# Altium footprint library PCB_proj_module_1_1.PcbLib: 58 footprints (part 1 of 4)
Each footprint in its own frame and in the unit in brackets; x right, y up, seen from the top. Pads: shape width x height; smd on the part's side, far side on the other; paste and mask are expansions set on the pad; w line width, h text height; cw(c..) or ccw(c..) is an arc to the next point about the centre after c.
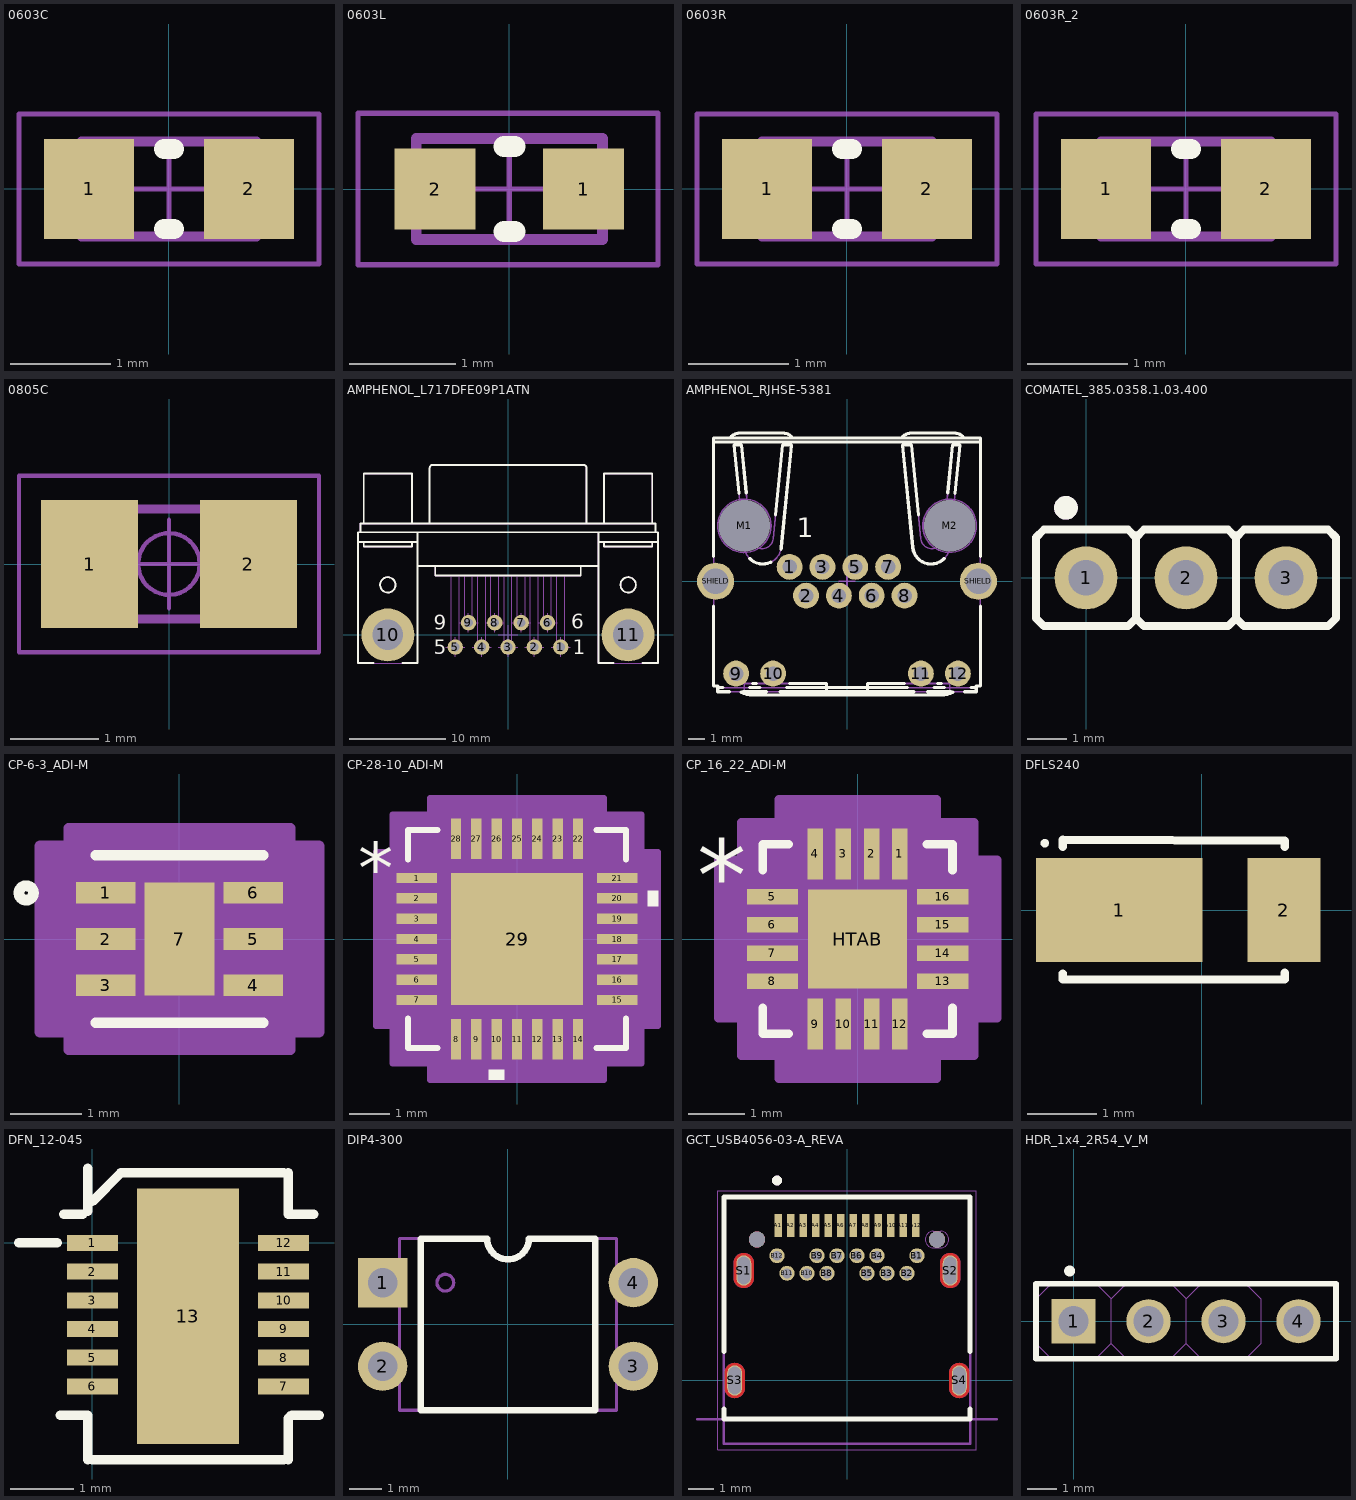
[diagram p0: the footprints below, top view; thin cyan lines are the x and y axes]

## 0603C [mm]
pads (2):
  rect 0.9x1 smd: 1(-0.8,0) 2(0.8,0)
Top Overlay:
  lines w0.2: -0.05,-0.4 0.05,-0.4 ; -0.05,0.4 0.05,0.4
Mechanical 13:
  lines w0.1: -0.875,-0.475 -0.875,0.475 0.875,0.475 0.875,-0.475 -0.875,-0.475
Mechanical 15:
  lines w0.05: -0.475,0 0.475,0 ; 0,-0.475 0,0.475 ; -1.5,-0.75 -1.5,0.75 1.5,0.75 1.5,-0.75 -1.5,-0.75
3D body: height 1, standoff 0, extent -0.525,-0.475 0.525,0.475
3D body: height 1, standoff 0, extent -0.875,-0.475 -0.525,0.475
3D body: height 1, standoff 0, extent 0.525,-0.475 0.875,0.475

## 0603L [mil]
pads (2):
  rect 30x30 smd: 1(27.5,0) 2(-27.5,0)
Top Overlay:
  lines w7.87: -1.97,-15.75 1.97,-15.75 -1.97,-15.74 ; -1.97,15.75 1.97,15.75 -1.97,15.75
Mechanical 13:
  lines w3.94: -34.45,-18.7 34.45,-18.7 34.45,18.7 -34.45,18.7 -34.45,-18.7
Mechanical 15:
  lines w1.97: -18.7,0 18.7,0 ; 0,-18.7 0,18.7 ; -56,-28 -56,28 55,28 55,-28 -56,-28
3D body: height 23.62, standoff 0, extent 20.67,-18.7 34.45,18.7
3D body: height 23.62, standoff 0, extent -34.45,-18.7 -20.67,18.7
3D body: height 23.62, standoff 0, extent -20.67,-18.7 20.67,18.7

## 0603R [mm]
pads (2):
  rect 0.9x1 smd: 1(-0.8,0) 2(0.8,0)
Top Overlay:
  lines w0.2: -0.05,-0.4 0.05,-0.4 ; -0.05,0.4 0.05,0.4
Mechanical 13:
  lines w0.1: -0.85,-0.475 0.85,-0.475 0.85,0.475 -0.85,0.475 -0.85,-0.475
Mechanical 15:
  lines w0.05: -0.475,0 0.475,0 ; 0,-0.475 0,0.475 ; -1.5,-0.75 1.5,-0.75 1.5,0.75 -1.5,0.75 -1.5,-0.75
3D body: height 0.6, standoff 0, extent -0.849,-0.474 -0.58,0.475
3D body: height 0.6, standoff 0, extent -0.58,-0.474 0.581,0.475
3D body: height 0.6, standoff 0, extent 0.581,-0.474 0.85,0.475

## 0603R_2 [mm]
pads (2):
  rect 0.9x1 smd: 1(-0.8,0) 2(0.8,0)
Top Overlay:
  lines w0.2: -0.05,-0.4 0.05,-0.4 ; -0.05,0.4 0.05,0.4
Mechanical 13:
  lines w0.1: -0.85,-0.475 -0.85,0.475 0.85,0.475 0.85,-0.475 -0.85,-0.475
Mechanical 15:
  lines w0.05: -0.475,0 0.475,0 ; 0,-0.475 0,0.475 ; -1.5,-0.75 -1.5,0.75 1.5,0.75 1.5,-0.75 -1.5,-0.75
3D body: height 0.6, standoff 0, extent 0.581,-0.474 0.85,0.475
3D body: height 0.6, standoff 0, extent -0.58,-0.474 0.581,0.475
3D body: height 0.6, standoff 0, extent -0.849,-0.474 -0.58,0.475

## 0805C [mm]
pads (2):
  rect 1.1x1.45 smd: 1(-0.9,0) 2(0.9,0)
Mechanical 14:
  lines w0.1: -1,-0.625 -1,0.625 1,0.625 1,-0.625 -1,-0.625
Mechanical 15:
  circle w0.05: c0,0 r0.35
  lines w0.05: -0.5,0 0.5,0 ; 0,-0.5 0,0.5 ; -1.7,-1 -1.7,1 1.7,1 1.7,-1 -1.7,-1
3D body "CAPC2012X90N.stp": height 0.9, standoff 0, extent -1.05,-0.675 1.05,0.675

## AMPHENOL_L717DFE09P1ATN [mm]
pads (11):
  round 1.6 hole 0.9: 1(5.48,-1.27) 2(2.74,-1.27) 3(0,-1.27) 4(-2.74,-1.27) 5(-5.48,-1.27) 6(4.11,1.27) 7(1.37,1.27) 8(-1.37,1.27) 9(-4.11,1.27)
  round 5.5 hole 3.2: 10(-12.495,0) 11(12.495,0)
Top Overlay:
  circle w0.2: c12.5,5.2 r0.8
  circle w0.2: c-12.5,5.2 r0.8
  lines w0.2: -15.35,10.67 -15.35,11.57 15.35,11.57 15.35,10.67 ; -15,9.67 -15,9.17 -10,9.17 -10,9.67 ; -15,11.57 -15,16.77 -10,16.77 -10,11.57 ; -14,-2.93 -15.6,-2.93 -15.6,10.67 15.6,10.67 15.6,-2.93 14,-2.93 ; -11,-2.93 -9.4,-2.93 -9.4,10.67 ; -9.539,9.67 -15.6,9.67 -9.4,9.67 ; -9.4,7.17 9.4,7.17 ; -8.142,11.57 -8.142,17.37 cw(c-7.842,17.37) -7.842,17.67 7.861,17.67 cw(c7.861,17.37) 8.161,17.37 8.161,11.57 ; -7.57,7.17 -7.57,6.17 7.57,6.17 7.57,7.17 ; 9.4,9.67 15.6,9.67 ; 9.4,10.67 9.4,-2.93 11,-2.93 ; 10,9.67 10,9.17 15,9.17 15,9.67 ; 10,11.57 10,16.77 15,16.77 15,11.57
  text "9" at -7.747,0.508 h1.5
  text "1" at 6.731,-2.032 h1.5
  text "5" at -7.747,-2.032 h1.5
  text "6" at 6.604,0.635 h1.5
Mechanical 8:
  lines w0.1: -13.5,0 -12.5,0 ; -12.5,-1 -12.5,0 ; -12.5,1 -12.5,0 ; -11.5,0 -12.5,0 ; -6.48,-1.27 -5.48,-1.27 ; -5.48,-2.27 -5.48,-1.27 ; -5.48,-0.27 -5.48,-1.27 ; -5.11,1.27 -4.11,1.27 ; -4.48,-1.27 -5.48,-1.27 ; -4.11,0.27 -4.11,1.27 ; -4.11,2.27 -4.11,1.27 ; -3.74,-1.27 -2.74,-1.27 ; -3.11,1.27 -4.11,1.27 ; -2.74,-2.27 -2.74,-1.27 ; -2.74,-0.27 -2.74,-1.27 ; -2.37,1.27 -1.37,1.27 ; -1.74,-1.27 -2.74,-1.27 ; -1.37,0.27 -1.37,1.27 ; -1.37,2.27 -1.37,1.27 ; -1,-1.27 0,-1.27 ; -1,0 0,0 ; -0.37,1.27 -1.37,1.27 ; 0,-2.27 0,-1.27 ; 0,-1 0,0 ; 0,-0.27 0,-1.27 ; 0,1 0,0 ; 0.37,1.27 1.37,1.27 ; 1,-1.27 0,-1.27 ; 1,0 0,0 ; 1.37,0.27 1.37,1.27 ; 1.37,2.27 1.37,1.27 ; 1.74,-1.27 2.74,-1.27 ; 2.37,1.27 1.37,1.27 ; 2.74,-2.27 2.74,-1.27 ; 2.74,-0.27 2.74,-1.27 ; 3.11,1.27 4.11,1.27 ; 3.74,-1.27 2.74,-1.27 ; 4.11,0.27 4.11,1.27 ; 4.11,2.27 4.11,1.27 ; 4.48,-1.27 5.48,-1.27 ; 5.11,1.27 4.11,1.27 ; 5.48,-2.27 5.48,-1.27 ; 5.48,-0.27 5.48,-1.27 ; 6.48,-1.27 5.48,-1.27 ; 11.5,0 12.5,0 ; 12.5,-1 12.5,0 ; 12.5,1 12.5,0 ; 13.5,0 12.5,0
Mechanical 14:
  circle w0.1: c12.5,0 r1.6
  circle w0.1: c12.5,5.2 r0.8
  circle w0.1: c-12.5,5.2 r0.8
  circle w0.1: c-12.5,0 r1.6
  lines w0.1: -15.35,10.67 -15.35,11.57 15.35,11.57 15.35,10.67 ; -15,9.67 -15,9.17 -10,9.17 -10,9.67 ; -15,11.57 -15,16.77 -10,16.77 -10,11.57 ; -9.539,9.67 -15.6,9.67 -9.4,9.67 ; -9.4,7.17 9.4,7.17 ; -9.4,10.67 -9.4,-2.93 -15.6,-2.93 -15.6,10.67 15.6,10.67 15.6,-2.93 9.4,-2.93 9.4,10.67 ; -8.142,11.57 -8.142,17.37 cw(c-7.842,17.37) -7.842,17.67 7.861,17.67 cw(c7.861,17.37) 8.161,17.37 8.161,11.57 ; -7.57,7.17 -7.57,6.17 7.57,6.17 7.57,7.17 ; -5.88,6.17 -5.88,-1.27 ccw(c-5.48,-1.27) -5.08,-1.27 -5.08,6.17 ; -4.51,6.17 -4.51,1.27 ccw(c-4.11,1.27) -3.71,1.27 -3.71,6.17 ; -3.14,6.17 -3.14,-1.27 ccw(c-2.74,-1.27) -2.34,-1.27 -2.34,6.17 ; -1.77,6.17 -1.77,1.27 ccw(c-1.37,1.27) -0.97,1.27 -0.97,6.17 ; -0.4,6.17 -0.4,-1.27 ccw(c0,-1.27) 0.4,-1.27 0.4,6.17 ; 0.97,6.17 0.97,1.27 ccw(c1.37,1.27) 1.77,1.27 1.77,6.17 ; 2.34,6.17 2.34,-1.27 ccw(c2.74,-1.27) 3.14,-1.27 3.14,6.17 ; 3.71,6.17 3.71,1.27 ccw(c4.11,1.27) 4.51,1.27 4.51,6.17 ; 5.08,6.17 5.08,-1.27 ccw(c5.48,-1.27) 5.88,-1.27 5.88,6.17 ; 9.4,9.67 15.6,9.67 ; 10,9.67 10,9.17 15,9.17 15,9.67 ; 10,11.57 10,16.77 15,16.77 15,11.57
3D body "AMPHENOL_L717DFE09P1ATN.stp": height 13.45, standoff -3.95, extent -15.6,-2.93 15.6,17.67

## AMPHENOL_RJHSE-5381 [mm]
pads (16):
  round 1.6 hole 0.9: 1(-3.554,0.886) 2(-2.538,-0.894) 3(-1.522,0.886) 4(-0.506,-0.894) 5(0.51,0.886) 6(1.526,-0.894) 7(2.542,0.886) 8(3.558,-0.894) 9(-6.862,-5.714) 10(-4.572,-5.714) 11(4.568,-5.714) 12(6.858,-5.714)
  round 1 hole 3.2 unplated mask+1.1: M1(-6.352,3.426) M2(6.348,3.426)
  round 2.3 hole 1.6: SHIELD(-8.132,-0.004) SHIELD(8.128,-0.004)
Top Overlay:
  lines w0.2: -8.257,-1.549 -8.257,-6.478 -8.003,-6.478 -8.003,-6.834 -7.293,-6.834 ; -8.257,1.541 -8.257,8.863 8.253,8.863 8.253,1.541 ; -8.257,8.609 8.253,8.609 ; -8.003,-6.58 -7.693,-6.58 ; -7.242,8.863 cw(c-6.621,8.379) -6.621,9.166 -3.979,9.166 cw(c-3.979,8.379) -3.358,8.863 ; -6.688,5.449 -6.987,8.432 -6.53,8.432 -6.233,5.473 ; -6.54,-6.87 ccw(c-5.844,-5.507) -5.844,-7.037 5.84,-7.037 ccw(c5.84,-5.507) 6.536,-6.87 ; -6.431,-6.834 -5.003,-6.834 ; -6.031,-6.58 -5.403,-6.58 ; -6.022,1.403 ccw(c-5.209,2.214) -4.719,1.176 ; -5.83,-6.326 -5.604,-6.326 ; -4.422,4.118 -3.99,8.432 -3.431,8.432 -4.066,2.1 cw(c-5.209,2.214) -4.089,1.961 ; -4.141,-6.834 4.137,-6.834 ; -3.741,-6.58 3.737,-6.58 ; -3.54,-6.326 -1.272,-6.326 -1.272,-6.834 ; 1.268,-6.834 1.268,-6.326 3.536,-6.326 ; 3.366,8.863 cw(c3.986,8.379) 3.986,9.166 6.628,9.166 cw(c6.628,8.379) 7.249,8.863 ; 4.418,4.118 3.986,8.432 3.427,8.432 4.062,2.1 ccw(c5.205,2.214) 6.018,1.403 ; 4.999,-6.834 6.427,-6.834 ; 5.399,-6.58 6.027,-6.58 ; 5.6,-6.326 5.826,-6.326 ; 6.229,5.473 6.526,8.432 6.983,8.432 6.684,5.449 ; 7.289,-6.834 7.999,-6.834 7.999,-6.478 8.253,-6.478 8.253,-1.549 ; 7.689,-6.58 7.999,-6.58
  text "1" at -3.12,2.725 h1.2
Mechanical 8:
  circle w0.1: c2.542,0.886 r0.45
  circle w0.1: c0.51,0.886 r0.45
  circle w0.1: c-1.522,0.886 r0.45
  circle w0.1: c-3.554,0.886 r0.45
  circle w0.1: c-2.538,-0.894 r0.45
  circle w0.1: c-0.506,-0.894 r0.45
  circle w0.1: c1.526,-0.894 r0.45
  circle w0.1: c3.558,-0.894 r0.45
  circle w0.1: c-8.132,-0.004 r0.8
  circle w0.1: c8.128,-0.004 r0.8
  circle w0.1: c-6.352,3.426 r1.65
  circle w0.1: c6.348,3.426 r1.65
  lines w0.1: -8.632,-0.004 -8.132,-0.004 ; -8.132,-0.504 -8.132,-0.004 ; -8.132,0.496 -8.132,-0.004 ; -7.632,-0.004 -8.132,-0.004 ; -7.362,-5.714 -6.862,-5.714 ; -6.862,-6.214 -6.862,-5.714 ; -6.862,-5.214 -6.862,-5.714 ; -6.852,3.426 -6.352,3.426 ; -6.362,-5.714 -6.862,-5.714 ; -6.352,2.926 -6.352,3.426 ; -6.352,3.926 -6.352,3.426 ; -5.852,3.426 -6.352,3.426 ; -5.072,-5.714 -4.572,-5.714 ; -4.572,-6.214 -4.572,-5.714 ; -4.572,-5.214 -4.572,-5.714 ; -4.072,-5.714 -4.572,-5.714 ; -4.054,0.886 -3.554,0.886 ; -3.554,0.386 -3.554,0.886 ; -3.554,1.386 -3.554,0.886 ; -3.054,0.886 -3.554,0.886 ; -3.038,-0.894 -2.538,-0.894 ; -2.538,-1.394 -2.538,-0.894 ; -2.538,-0.394 -2.538,-0.894 ; -2.038,-0.894 -2.538,-0.894 ; -2.022,0.886 -1.522,0.886 ; -1.522,0.386 -1.522,0.886 ; -1.522,1.386 -1.522,0.886 ; -1.022,0.886 -1.522,0.886 ; -1.006,-0.894 -0.506,-0.894 ; -0.506,-1.394 -0.506,-0.894 ; -0.506,-0.394 -0.506,-0.894 ; -0.5,0 0,0 ; -0.006,-0.894 -0.506,-0.894 ; 0,-0.5 0,0 ; 0,0.5 0,0 ; 0.01,0.886 0.51,0.886 ; 0.5,0 0,0 ; 0.51,0.386 0.51,0.886 ; 0.51,1.386 0.51,0.886 ; 1.01,0.886 0.51,0.886 ; 1.026,-0.894 1.526,-0.894 ; 1.526,-1.394 1.526,-0.894 ; 1.526,-0.394 1.526,-0.894 ; 2.026,-0.894 1.526,-0.894 ; 2.042,0.886 2.542,0.886 ; 2.542,0.386 2.542,0.886 ; 2.542,1.386 2.542,0.886 ; 3.042,0.886 2.542,0.886 ; 3.058,-0.894 3.558,-0.894 ; 3.558,-1.394 3.558,-0.894 ; 3.558,-0.394 3.558,-0.894 ; 4.058,-0.894 3.558,-0.894 ; 4.068,-5.714 4.568,-5.714 ; 4.568,-6.214 4.568,-5.714 ; 4.568,-5.214 4.568,-5.714 ; 5.068,-5.714 4.568,-5.714 ; 5.848,3.426 6.348,3.426 ; 6.348,2.926 6.348,3.426 ; 6.348,3.926 6.348,3.426 ; 6.358,-5.714 6.858,-5.714 ; 6.848,3.426 6.348,3.426 ; 6.858,-6.214 6.858,-5.714 ; 6.858,-5.214 6.858,-5.714 ; 7.358,-5.714 6.858,-5.714 ; 7.628,-0.004 8.128,-0.004 ; 8.128,-0.504 8.128,-0.004 ; 8.128,0.496 8.128,-0.004 ; 8.628,-0.004 8.128,-0.004
Mechanical 14:
  lines w0.1: -8.257,-0.408 cw(c-7.884,-0.027) -8.257,0.354 ; -8.257,8.609 8.253,8.609 ; -8.003,-6.58 7.999,-6.58 ; -7.242,8.863 cw(c-6.621,8.379) -6.621,9.166 -3.979,9.166 cw(c-3.979,8.379) -3.358,8.863 ; -6.606,-6.834 ccw(c-5.844,-5.507) -5.844,-7.037 5.84,-7.037 ccw(c5.84,-5.507) 6.602,-6.834 ; -6.352,-6.834 -6.352,-6.326 -1.272,-6.326 -1.272,-6.834 ; 1.268,-6.834 1.268,-6.326 6.348,-6.326 6.348,-6.834 ; 3.366,8.863 cw(c3.986,8.379) 3.986,9.166 6.628,9.166 cw(c6.628,8.379) 7.249,8.863 ; 8.253,-0.408 ccw(c7.88,-0.027) 8.253,0.354 ; -8.257,-6.478 -8.257,8.863 8.253,8.863 8.253,-6.478 7.999,-6.478 7.999,-6.834 -8.003,-6.834 -8.003,-6.478 -8.257,-6.478 ; -6.987,8.432 -6.53,8.432 -5.948,2.63 ccw(c-5.26,2.697) -4.572,2.63 -3.99,8.432 -3.431,8.432 -4.066,2.1 cw(c-5.209,2.214) -6.352,2.1 -6.987,8.432 ; 3.427,8.432 3.986,8.432 4.568,2.63 ccw(c5.256,2.697) 5.944,2.63 6.526,8.432 6.983,8.432 6.348,2.1 cw(c5.205,2.214) 4.062,2.1 3.427,8.432
  text "1" at -3.12,2.725 h1.2
3D body "AMPHENOL_RJHSE-5381.stp": height 15.14, standoff -3.7, extent -8.417,-7.037 8.413,9.166

## COMATEL_385.0358.1.03.400 [mm]
pads (3):
  round 1.6 hole 0.9: 1(0,0) 2(2.54,0) 3(5.08,0)
Top Overlay:
  circle w0.3: c-0.508,1.778 r0.15
  lines w0.2: -1.27,1.025 -1.07,1.225 ; -1.27,1.025 -1.27,-1.025 -1.07,-1.225 1.07,-1.225 1.27,-1.025 ; -1.27,1.025 -1.07,1.225 ; -1.07,1.225 1.07,1.225 1.27,1.025 ; 1.27,-1.025 1.27,1.025 ; 1.27,-1.025 1.47,-1.225 3.61,-1.225 3.81,-1.025 ; 1.27,1.025 1.47,1.225 3.61,1.225 3.81,1.025 ; 3.81,-1.025 3.81,1.025 ; 3.81,-1.025 4.01,-1.225 6.15,-1.225 6.35,-1.025 6.35,1.025 6.15,1.225 4.01,1.225 3.81,1.025
Mechanical 14:
  circle w0.3: c-0.508,1.778 r0.15
  lines w0.1: 1.27,-1.025 1.07,-1.225 -1.07,-1.225 -1.27,-1.025 -1.27,1.025 -1.07,1.225 1.07,1.225 1.27,1.025 ; 1.27,-1.025 1.27,1.025 ; 1.27,-1.025 1.47,-1.225 3.61,-1.225 3.81,-1.025 ; 1.27,1.025 1.47,1.225 3.61,1.225 3.81,1.025 ; 3.81,-1.025 3.81,1.025 ; 3.81,-1.025 4.01,-1.225 6.15,-1.225 6.35,-1.025 6.35,1.025 6.15,1.225 4.01,1.225 3.81,1.025
3D body "COMATEL_385.0358.1.03.400.stp": height 8, standoff -3.2, extent -1.27,-1.225 6.35,1.225

## CP-6-3_ADI-M [mil]
pads (7):
  rect 33x12 smd paste+0 mask+0: 1(-41,25.59) 2(-41,0) 3(-41,-25.59) 4(41,-25.59) 5(41,0) 6(41,25.59)
  rect 39x63 smd paste+0 mask+0: 7(0,0)
Top Overlay:
  circle w6: c-85.09,25.59 r4
  lines w6: -46.5,-46.5 46.5,-46.5 ; -46.5,46.5 46.5,46.5
Mechanical 13:
  circle w0: c-24.5,25.59 r3
  lines w0: -12,41.5 ccw(c0,41.5) 12,41.5
  lines w1: -41.5,-41.5 41.5,-41.5 41.5,41.5 -41.5,41.5 -41.5,-41.5
Mechanical 15:
  region: -61.5,-51.59 -77.5,-51.59 -77.5,51.59 -61.5,51.59 -61.5,61.5 61.5,61.5 61.5,51.59 77.5,51.59 77.5,-51.59 61.5,-51.59 61.5,-61.5 -61.5,-61.5
  lines w6: -77.5,-51.59 -77.5,51.59 -61.5,51.59 -61.5,61.5 61.5,61.5 61.5,51.59 77.5,51.59 77.5,-51.59 61.5,-51.59 61.5,-61.5 -61.5,-61.5 -61.5,-51.59 -77.5,-51.59
3D body "CP-6-3_ADI.step": height 24.09, standoff 0, extent -41.5,-41.5 41.5,41.5

## CP-28-10_ADI-M [mil]
pads (29):
  rect 39x10 smd paste+0 mask+0: 1(-97,59.06) 2(-97,39.37) 3(-97,19.68) 4(-97,0) 5(-97,-19.68) 6(-97,-39.37) 7(-97,-59.06) 15(97,-59.06) 16(97,-39.37) 17(97,-19.68) 18(97,0) 19(97,19.68) 20(97,39.37) 21(97,59.06)
  rect 10x39 smd paste+0 mask+0: 8(-59.06,-97) 9(-39.37,-97) 10(-19.68,-97) 11(0,-97) 12(19.68,-97) 13(39.37,-97) 14(59.06,-97) 22(59.06,97) 23(39.37,97) 24(19.68,97) 25(0,97) 26(-19.68,97) 27(-39.37,97) 28(-59.06,97)
  rect 128x128 smd paste-64 mask+0: 29(0,0)
Top Overlay:
  region: -12.19,-126.5 -27.18,-126.5 -27.18,-136.5 -12.19,-136.5
  region: 126.5,46.87 136.5,46.87 136.5,31.87 126.5,31.87
  lines w6: -105.5,-77.16 -105.5,-105.5 -77.16,-105.5 ; -105.5,77.16 -105.5,105.5 -77.16,105.5 ; 77.16,-105.5 105.5,-105.5 105.5,-77.16 ; 77.16,105.5 105.5,105.5 105.5,77.16
  text "*" at -154,43.9 h50
Top Paste:
  region: -3.94,60.06 -60.06,60.06 -60.06,3.94 -3.94,3.94
  region: -3.94,-3.94 -60.06,-3.94 -60.06,-60.06 -3.94,-60.06
  region: 60.06,60.06 3.94,60.06 3.94,3.94 60.06,3.94
  region: 60.06,-3.94 3.94,-3.94 3.94,-60.06 60.06,-60.06
Mechanical 13:
  lines w1: -100.5,50.5 -50.5,100.5 ; -100.5,-100.5 100.5,-100.5 100.5,100.5 -100.5,100.5 -100.5,-100.5 ; -100.5,-65.06 -100.5,-53.06 -100.5,-65.06 ; -100.5,-45.37 -100.5,-33.37 -100.5,-45.37 ; -100.5,-25.68 -100.5,-13.69 -100.5,-25.68 ; -100.5,-6 -100.5,6 -100.5,-6 ; -100.5,13.69 -100.5,25.68 -100.5,13.69 ; -100.5,33.37 -100.5,45.37 -100.5,33.37 ; -100.5,53.06 -100.5,65.06 -100.5,53.06 ; -65.06,-100.5 -53.06,-100.5 -65.06,-100.5 ; -65.06,100.5 -53.06,100.5 -65.06,100.5 ; -45.37,-100.5 -33.37,-100.5 -45.37,-100.5 ; -45.37,100.5 -33.37,100.5 -45.37,100.5 ; -25.68,-100.5 -13.69,-100.5 -25.68,-100.5 ; -25.68,100.5 -13.69,100.5 -25.68,100.5 ; -6,-100.5 6,-100.5 -6,-100.5 ; -6,100.5 6,100.5 -6,100.5 ; 13.69,-100.5 25.68,-100.5 13.69,-100.5 ; 13.69,100.5 25.68,100.5 13.69,100.5 ; 33.37,-100.5 45.37,-100.5 33.37,-100.5 ; 33.37,100.5 45.37,100.5 33.37,100.5 ; 53.06,-100.5 65.06,-100.5 53.06,-100.5 ; 53.06,100.5 65.06,100.5 53.06,100.5 ; 100.5,-65.06 100.5,-53.06 100.5,-65.06 ; 100.5,-45.37 100.5,-33.37 100.5,-45.37 ; 100.5,-25.68 100.5,-13.69 100.5,-25.68 ; 100.5,-6 100.5,6 100.5,-6 ; 100.5,13.69 100.5,25.68 100.5,13.69 ; 100.5,33.37 100.5,45.37 100.5,33.37 ; 100.5,53.06 100.5,65.06 100.5,53.06
  text "*" at -90,43.9 h50
Mechanical 15:
  region: -84.06,-120.5 -120.5,-120.5 -120.5,-84.06 -136.5,-84.06 -136.5,84.06 -120.5,84.06 -120.5,120.5 -84.06,120.5 -84.06,136.5 84.06,136.5 84.06,120.5 120.5,120.5 120.5,84.06 136.5,84.06 136.5,-84.06 120.5,-84.06 120.5,-120.5 84.06,-120.5 84.06,-136.5 -84.06,-136.5
  lines w6: -136.5,-84.06 -120.5,-84.06 -120.5,-120.5 -84.06,-120.5 -84.06,-136.5 84.06,-136.5 84.06,-120.5 120.5,-120.5 120.5,-84.06 136.5,-84.06 136.5,84.06 120.5,84.06 120.5,120.5 84.06,120.5 84.06,136.5 -84.06,136.5 -84.06,120.5 -120.5,120.5 -120.5,84.06 -136.5,84.06 -136.5,-84.06
3D body "CP-28-10_ADI.step": height 32.09, standoff 0, extent -100.51,-100.51 100.51,100.51

## CP_16_22_ADI-M [mm]
pads (17):
  rect 0.275x0.906 smd paste+0 mask+0: 1(0.75,1.503) 2(0.25,1.503) 3(-0.25,1.503) 4(-0.75,1.503) 9(-0.75,-1.503) 10(-0.25,-1.503) 11(0.25,-1.503) 12(0.75,-1.503)
  rect 0.906x0.275 smd paste+0 mask+0: 5(-1.503,0.75) 6(-1.503,0.25) 7(-1.503,-0.25) 8(-1.503,-0.75) 13(1.503,-0.75) 14(1.503,-0.25) 15(1.503,0.25) 16(1.503,0.75)
  rect 1.75x1.75 smd paste+0 mask+0: HTAB(0,0)
Top Overlay:
  lines w0.152: -1.677,-1.22 -1.677,-1.677 -1.22,-1.677 ; -1.677,1.22 -1.677,1.677 -1.22,1.677 ; 1.22,-1.677 1.677,-1.677 1.677,-1.22 ; 1.22,1.677 1.677,1.677 1.677,1.22
  text "*" at -2.837,0.496 h1.27
Mechanical 13:
  lines w0.025: -1.55,-1.55 -1.55,1.55 1.55,1.55 1.55,-1.55 -1.55,-1.55 ; -1.55,-0.9 -1.55,-0.6 -1.55,-0.9 ; -1.55,-0.4 -1.55,-0.1 -1.55,-0.4 ; -1.55,0.1 -1.55,0.4 -1.55,0.1 ; -1.55,0.6 -1.55,0.9 -1.55,0.6 ; -0.9,-1.55 -0.6,-1.55 -0.9,-1.55 ; -0.9,1.55 -0.6,1.55 -0.9,1.55 ; -0.4,-1.55 -0.1,-1.55 -0.4,-1.55 ; -0.4,1.55 -0.1,1.55 -0.4,1.55 ; 0.1,-1.55 0.4,-1.55 0.1,-1.55 ; 0.1,1.55 0.4,1.55 0.1,1.55 ; 0.6,-1.55 0.9,-1.55 0.6,-1.55 ; 0.6,1.55 0.9,1.55 0.6,1.55 ; 1.55,-0.9 1.55,-0.6 1.55,-0.9 ; 1.55,-0.4 1.55,-0.1 1.55,-0.4 ; 1.55,0.1 1.55,0.4 1.55,0.1 ; 1.55,0.6 1.55,0.9 1.55,0.6
  text "*" at -1.408,0.585 h0.64
Mechanical 15:
  region: -1.395,-2.058 -2.058,-2.058 -2.058,-1.395 -2.464,-1.395 -2.464,1.395 -2.058,1.395 -2.058,2.058 -1.395,2.058 -1.395,2.464 1.395,2.464 1.395,2.058 2.058,2.058 2.058,1.395 2.464,1.395 2.464,-1.395 2.058,-1.395 2.058,-2.058 1.395,-2.058 1.395,-2.464 -1.395,-2.464
  lines w0.152: -2.464,-1.395 -2.464,1.395 -2.058,1.395 -2.058,2.058 -1.395,2.058 -1.395,2.464 1.395,2.464 1.395,2.058 2.058,2.058 2.058,1.395 2.464,1.395 2.464,-1.395 2.058,-1.395 2.058,-2.058 1.395,-2.058 1.395,-2.464 -1.395,-2.464 -1.395,-2.058 -2.058,-2.058 -2.058,-1.395 -2.464,-1.395
3D body "CP_16_22_ADI.step": height 0.8, standoff 0, extent -1.55,-1.55 1.55,1.55

## DFLS240 [mil]
pads (2):
  rect 94.5x59.1 smd: 1(-46.7,0)
  rect 41.3x59.1 smd: 2(46.8,0)
Top Layer:
  pour cut-out: 5,-80
Top Overlay:
  circle w4.7: c-89,38 r0.1
  lines w4.7: -78.8,40 47.1,39.4 ; -78.7,-36 -78.7,-39.4 47.2,-39.4 ; -78.7,36 -78.7,39.4 ; 47.3,-39 47.3,-35.6 ; 47.3,36 47.3,39.4

## DFN_12-045 [mm]
pads (13):
  rect 0.8x0.25 smd: 1(0,0) 2(0,-0.45) 3(0,-0.9) 4(0,-1.35) 5(0,-1.8) 6(0,-2.25) 7(3,-2.25) 8(3,-1.8) 9(3,-1.35) 10(3,-0.9) 11(3,-0.45) 12(3,0)
  rect 1.6x4 smd: 13(1.5,-1.15)
Top Overlay:
  lines w0.15: -1.15,0 -0.55,0 ; -0.5,-2.7 -0.075,-2.7 -0.075,-3.4 ; -0.45,0.45 -0.15,0.45 ; -0.075,0.5 -0.075,1.17 ; 0,-3.4 3,-3.4 ; 0,0.65 0.45,1.1 3,1.1 ; 3.075,-3.4 3.075,-2.75 3.125,-2.7 3.3,-2.7 3.555,-2.7 ; 3.075,1.1 3.075,0.45 3.475,0.45
3D body: height 0.75, standoff 0, extent 0,-2.625 3,0.375

## DIP4-300 [mm]
pads (4):
  rect 1.5x1.5 hole 0.9: 1(-3.81,1.27)
  round 1.5 hole 0.9: 2(-3.81,-1.27) 3(3.81,-1.27) 4(3.81,1.27)
Top Overlay:
  lines w0.2: -0.635,2.61 ccw(c0,2.61) 0.635,2.61 ; -0.635,2.61 ccw(c0,2.61) 0.635,2.61 ; -0.635,2.61 -2.65,2.61 -2.65,-2.61 2.65,-2.61 2.65,2.61 0.635,2.61
Mechanical 14:
  circle w0.1: c-1.905,1.27 r0.254
  lines w0.1: -3.3,-2.61 -3.3,2.61 -0.635,2.61 ccw(c0,2.61) 0.635,2.61 3.3,2.61 3.3,-2.61 -3.3,-2.61
3D body "DIP4-300.stp": height 5.33, standoff -3.3, extent -3.935,-2.54 3.935,2.54

## GCT_USB4056-03-A_REVA [mm]
pads (30):
  rect 0.3x0.9 smd: A1(-2.75,6.2) A2(-2.25,6.2) A3(-1.75,6.2) A4(-1.25,6.2) A5(-0.75,6.2) A6(-0.25,6.2) A7(0.25,6.2) A8(0.75,6.2) A9(1.25,6.2) A10(1.75,6.2) A11(2.25,6.2) A12(2.75,6.2)
  round 0.6 hole 0.4: B1(2.8,4.99) B2(2.4,4.29) B3(1.6,4.29) B4(1.2,4.99) B5(0.8,4.29) B6(0.4,4.99) B7(-0.4,4.99) B8(-0.8,4.29) B9(-1.2,4.99) B10(-1.6,4.29) B11(-2.4,4.29) B12(-2.8,4.99)
  oval 0.6x1.2 hole 0.5 slot 1.1 at 90 deg mask+0: S1(-4.13,4.4) S2(4.13,4.4) S3(-4.49,0) S4(4.49,0)
  round 0.65 hole 0.65 unplated: ""(-3.6,5.64) ""(3.6,5.64)
Top Layer:
  region: -4.448,0.698 -4.427,0.695 -4.407,0.691 -4.386,0.686 -4.366,0.68 -4.347,0.673 -4.327,0.665 -4.308,0.656 -4.29,0.646 -4.272,0.635 -4.255,0.624 -4.238,0.611 -4.222,0.597 -4.207,0.583 -4.193,0.568 -4.179,0.552 -4.166,0.535 -4.155,0.518 -4.144,0.5 -4.134,0.482 -4.125,0.463 -4.117,0.443 -4.11,0.424 -4.104,0.404 -4.099,0.383 -4.095,0.363 -4.092,0.342 -4.09,0.3 -4.09,-0.3 -4.092,-0.342 -4.095,-0.363 -4.099,-0.383 -4.104,-0.404 -4.11,-0.424 -4.117,-0.443 -4.125,-0.463 -4.134,-0.482 -4.144,-0.5 -4.155,-0.518 -4.166,-0.535 -4.179,-0.552 -4.193,-0.568 -4.207,-0.583 -4.222,-0.597 -4.238,-0.611 -4.255,-0.624 -4.272,-0.635 -4.29,-0.646 -4.308,-0.656 -4.327,-0.665 -4.347,-0.673 -4.366,-0.68 -4.386,-0.686 -4.407,-0.691 -4.427,-0.695 -4.448,-0.698 -4.49,-0.7 -4.511,-0.699 -4.532,-0.698 -4.553,-0.695 -4.573,-0.691 -4.594,-0.686 -4.614,-0.68 -4.633,-0.673 -4.653,-0.665 -4.672,-0.656 -4.69,-0.646 -4.708,-0.635 -4.725,-0.624 -4.742,-0.611 -4.758,-0.597 -4.773,-0.583 -4.787,-0.568 -4.801,-0.552 -4.814,-0.535 -4.825,-0.518 -4.836,-0.5 -4.846,-0.482 -4.855,-0.463 -4.863,-0.443 -4.87,-0.424 -4.876,-0.404 -4.881,-0.383 -4.885,-0.363 -4.888,-0.342 -4.89,-0.3 -4.89,0.3 -4.888,0.342 -4.885,0.363 -4.881,0.383 -4.876,0.404 -4.87,0.424 -4.863,0.443 -4.855,0.463 -4.846,0.482 -4.836,0.5 -4.825,0.518 -4.814,0.535 -4.801,0.552 -4.787,0.568 -4.773,0.583 -4.758,0.597 -4.742,0.611 -4.725,0.624 -4.708,0.635 -4.69,0.646 -4.672,0.656 -4.653,0.665 -4.633,0.673 -4.614,0.68 -4.594,0.686 -4.573,0.691 -4.553,0.695 -4.532,0.698 -4.511,0.699 -4.49,0.7
  region: 4.511,0.699 4.532,0.698 4.553,0.695 4.573,0.691 4.594,0.686 4.614,0.68 4.633,0.673 4.653,0.665 4.672,0.656 4.69,0.646 4.708,0.635 4.725,0.624 4.742,0.611 4.758,0.597 4.773,0.583 4.787,0.568 4.801,0.552 4.814,0.535 4.825,0.518 4.836,0.5 4.846,0.482 4.855,0.463 4.863,0.443 4.87,0.424 4.876,0.404 4.881,0.383 4.885,0.363 4.888,0.342 4.89,0.3 4.89,-0.3 4.888,-0.342 4.885,-0.363 4.881,-0.383 4.876,-0.404 4.87,-0.424 4.863,-0.443 4.855,-0.463 4.846,-0.482 4.836,-0.5 4.825,-0.518 4.814,-0.535 4.801,-0.552 4.787,-0.568 4.773,-0.583 4.758,-0.597 4.742,-0.611 4.725,-0.624 4.708,-0.635 4.69,-0.646 4.672,-0.656 4.653,-0.665 4.633,-0.673 4.614,-0.68 4.594,-0.686 4.573,-0.691 4.553,-0.695 4.532,-0.698 4.511,-0.699 4.49,-0.7 4.448,-0.698 4.427,-0.695 4.407,-0.691 4.386,-0.686 4.366,-0.68 4.347,-0.673 4.327,-0.665 4.308,-0.656 4.29,-0.646 4.272,-0.635 4.255,-0.624 4.238,-0.611 4.222,-0.597 4.207,-0.583 4.193,-0.568 4.179,-0.552 4.166,-0.535 4.155,-0.518 4.144,-0.5 4.134,-0.482 4.125,-0.463 4.117,-0.443 4.11,-0.424 4.104,-0.404 4.099,-0.383 4.095,-0.363 4.092,-0.342 4.09,-0.3 4.09,0.3 4.092,0.342 4.095,0.363 4.099,0.383 4.104,0.404 4.11,0.424 4.117,0.443 4.125,0.463 4.134,0.482 4.144,0.5 4.155,0.518 4.166,0.535 4.179,0.552 4.193,0.568 4.207,0.583 4.222,0.597 4.238,0.611 4.255,0.624 4.272,0.635 4.29,0.646 4.308,0.656 4.327,0.665 4.347,0.673 4.366,0.68 4.386,0.686 4.407,0.691 4.427,0.695 4.448,0.698 4.49,0.7
  region: -4.109,5.099 -4.088,5.098 -4.067,5.095 -4.047,5.091 -4.026,5.086 -4.006,5.08 -3.987,5.073 -3.967,5.065 -3.948,5.056 -3.93,5.046 -3.912,5.035 -3.895,5.024 -3.878,5.011 -3.862,4.997 -3.847,4.983 -3.833,4.968 -3.819,4.952 -3.806,4.935 -3.795,4.918 -3.784,4.9 -3.774,4.882 -3.765,4.863 -3.757,4.843 -3.75,4.824 -3.744,4.804 -3.739,4.783 -3.735,4.763 -3.732,4.742 -3.731,4.721 -3.73,4.7 -3.73,4.1 -3.731,4.079 -3.732,4.058 -3.735,4.037 -3.739,4.017 -3.744,3.996 -3.75,3.976 -3.757,3.957 -3.765,3.937 -3.774,3.918 -3.784,3.9 -3.795,3.882 -3.806,3.865 -3.819,3.848 -3.833,3.832 -3.847,3.817 -3.862,3.803 -3.878,3.789 -3.895,3.776 -3.912,3.765 -3.93,3.754 -3.948,3.744 -3.967,3.735 -3.987,3.727 -4.006,3.72 -4.026,3.714 -4.047,3.709 -4.067,3.705 -4.088,3.702 -4.109,3.701 -4.13,3.7 -4.151,3.701 -4.172,3.702 -4.193,3.705 -4.213,3.709 -4.234,3.714 -4.254,3.72 -4.273,3.727 -4.293,3.735 -4.312,3.744 -4.33,3.754 -4.348,3.765 -4.365,3.776 -4.382,3.789 -4.398,3.803 -4.413,3.817 -4.427,3.832 -4.441,3.848 -4.454,3.865 -4.465,3.882 -4.476,3.9 -4.486,3.918 -4.495,3.937 -4.503,3.957 -4.51,3.976 -4.516,3.996 -4.521,4.017 -4.525,4.037 -4.528,4.058 -4.529,4.079 -4.53,4.1 -4.53,4.7 -4.529,4.721 -4.528,4.742 -4.525,4.763 -4.521,4.783 -4.516,4.804 -4.51,4.824 -4.503,4.843 -4.495,4.863 -4.486,4.882 -4.476,4.9 -4.465,4.918 -4.454,4.935 -4.441,4.952 -4.427,4.968 -4.413,4.983 -4.398,4.997 -4.382,5.011 -4.365,5.024 -4.348,5.035 -4.33,5.046 -4.312,5.056 -4.293,5.065 -4.273,5.073 -4.254,5.08 -4.234,5.086 -4.213,5.091 -4.193,5.095 -4.172,5.098 -4.151,5.099 -4.13,5.1
  region: 4.151,5.099 4.172,5.098 4.193,5.095 4.213,5.091 4.234,5.086 4.254,5.08 4.273,5.073 4.293,5.065 4.312,5.056 4.33,5.046 4.348,5.035 4.365,5.024 4.382,5.011 4.398,4.997 4.413,4.983 4.427,4.968 4.441,4.952 4.454,4.935 4.465,4.918 4.476,4.9 4.486,4.882 4.495,4.863 4.503,4.843 4.51,4.824 4.516,4.804 4.521,4.783 4.525,4.763 4.528,4.742 4.529,4.721 4.53,4.7 4.53,4.1 4.529,4.079 4.528,4.058 4.525,4.037 4.521,4.017 4.516,3.996 4.51,3.976 4.503,3.957 4.495,3.937 4.486,3.918 4.476,3.9 4.465,3.882 4.454,3.865 4.441,3.848 4.427,3.832 4.413,3.817 4.398,3.803 4.382,3.789 4.365,3.776 4.348,3.765 4.33,3.754 4.312,3.744 4.293,3.735 4.273,3.727 4.254,3.72 4.234,3.714 4.213,3.709 4.193,3.705 4.172,3.702 4.151,3.701 4.13,3.7 4.109,3.701 4.088,3.702 4.067,3.705 4.047,3.709 4.026,3.714 4.006,3.72 3.987,3.727 3.967,3.735 3.948,3.744 3.93,3.754 3.912,3.765 3.895,3.776 3.878,3.789 3.862,3.803 3.847,3.817 3.833,3.832 3.819,3.848 3.806,3.865 3.795,3.882 3.784,3.9 3.774,3.918 3.765,3.937 3.757,3.957 3.75,3.976 3.744,3.996 3.739,4.017 3.735,4.037 3.732,4.058 3.731,4.079 3.73,4.1 3.73,4.7 3.731,4.721 3.732,4.742 3.735,4.763 3.739,4.783 3.744,4.804 3.75,4.824 3.757,4.843 3.765,4.863 3.774,4.882 3.784,4.9 3.795,4.918 3.806,4.935 3.819,4.952 3.833,4.968 3.847,4.983 3.862,4.997 3.878,5.011 3.895,5.024 3.912,5.035 3.93,5.046 3.948,5.056 3.967,5.065 3.987,5.073 4.006,5.08 4.026,5.086 4.047,5.091 4.067,5.095 4.088,5.098 4.109,5.099 4.13,5.1
Bottom Layer:
  region: -4.448,0.698 -4.427,0.695 -4.407,0.691 -4.386,0.686 -4.366,0.68 -4.347,0.673 -4.327,0.665 -4.308,0.656 -4.29,0.646 -4.272,0.635 -4.255,0.624 -4.238,0.611 -4.222,0.597 -4.207,0.583 -4.193,0.568 -4.179,0.552 -4.166,0.535 -4.155,0.518 -4.144,0.5 -4.134,0.482 -4.125,0.463 -4.117,0.443 -4.11,0.424 -4.104,0.404 -4.099,0.383 -4.095,0.363 -4.092,0.342 -4.09,0.3 -4.09,-0.3 -4.092,-0.342 -4.095,-0.363 -4.099,-0.383 -4.104,-0.404 -4.11,-0.424 -4.117,-0.443 -4.125,-0.463 -4.134,-0.482 -4.144,-0.5 -4.155,-0.518 -4.166,-0.535 -4.179,-0.552 -4.193,-0.568 -4.207,-0.583 -4.222,-0.597 -4.238,-0.611 -4.255,-0.624 -4.272,-0.635 -4.29,-0.646 -4.308,-0.656 -4.327,-0.665 -4.347,-0.673 -4.366,-0.68 -4.386,-0.686 -4.407,-0.691 -4.427,-0.695 -4.448,-0.698 -4.49,-0.7 -4.511,-0.699 -4.532,-0.698 -4.553,-0.695 -4.573,-0.691 -4.594,-0.686 -4.614,-0.68 -4.633,-0.673 -4.653,-0.665 -4.672,-0.656 -4.69,-0.646 -4.708,-0.635 -4.725,-0.624 -4.742,-0.611 -4.758,-0.597 -4.773,-0.583 -4.787,-0.568 -4.801,-0.552 -4.814,-0.535 -4.825,-0.518 -4.836,-0.5 -4.846,-0.482 -4.855,-0.463 -4.863,-0.443 -4.87,-0.424 -4.876,-0.404 -4.881,-0.383 -4.885,-0.363 -4.888,-0.342 -4.89,-0.3 -4.89,0.3 -4.888,0.342 -4.885,0.363 -4.881,0.383 -4.876,0.404 -4.87,0.424 -4.863,0.443 -4.855,0.463 -4.846,0.482 -4.836,0.5 -4.825,0.518 -4.814,0.535 -4.801,0.552 -4.787,0.568 -4.773,0.583 -4.758,0.597 -4.742,0.611 -4.725,0.624 -4.708,0.635 -4.69,0.646 -4.672,0.656 -4.653,0.665 -4.633,0.673 -4.614,0.68 -4.594,0.686 -4.573,0.691 -4.553,0.695 -4.532,0.698 -4.511,0.699 -4.49,0.7
  region: 4.511,0.699 4.532,0.698 4.553,0.695 4.573,0.691 4.594,0.686 4.614,0.68 4.633,0.673 4.653,0.665 4.672,0.656 4.69,0.646 4.708,0.635 4.725,0.624 4.742,0.611 4.758,0.597 4.773,0.583 4.787,0.568 4.801,0.552 4.814,0.535 4.825,0.518 4.836,0.5 4.846,0.482 4.855,0.463 4.863,0.443 4.87,0.424 4.876,0.404 4.881,0.383 4.885,0.363 4.888,0.342 4.89,0.3 4.89,-0.3 4.888,-0.342 4.885,-0.363 4.881,-0.383 4.876,-0.404 4.87,-0.424 4.863,-0.443 4.855,-0.463 4.846,-0.482 4.836,-0.5 4.825,-0.518 4.814,-0.535 4.801,-0.552 4.787,-0.568 4.773,-0.583 4.758,-0.597 4.742,-0.611 4.725,-0.624 4.708,-0.635 4.69,-0.646 4.672,-0.656 4.653,-0.665 4.633,-0.673 4.614,-0.68 4.594,-0.686 4.573,-0.691 4.553,-0.695 4.532,-0.698 4.511,-0.699 4.49,-0.7 4.448,-0.698 4.427,-0.695 4.407,-0.691 4.386,-0.686 4.366,-0.68 4.347,-0.673 4.327,-0.665 4.308,-0.656 4.29,-0.646 4.272,-0.635 4.255,-0.624 4.238,-0.611 4.222,-0.597 4.207,-0.583 4.193,-0.568 4.179,-0.552 4.166,-0.535 4.155,-0.518 4.144,-0.5 4.134,-0.482 4.125,-0.463 4.117,-0.443 4.11,-0.424 4.104,-0.404 4.099,-0.383 4.095,-0.363 4.092,-0.342 4.09,-0.3 4.09,0.3 4.092,0.342 4.095,0.363 4.099,0.383 4.104,0.404 4.11,0.424 4.117,0.443 4.125,0.463 4.134,0.482 4.144,0.5 4.155,0.518 4.166,0.535 4.179,0.552 4.193,0.568 4.207,0.583 4.222,0.597 4.238,0.611 4.255,0.624 4.272,0.635 4.29,0.646 4.308,0.656 4.327,0.665 4.347,0.673 4.366,0.68 4.386,0.686 4.407,0.691 4.427,0.695 4.448,0.698 4.49,0.7
  region: -4.109,5.099 -4.088,5.098 -4.067,5.095 -4.047,5.091 -4.026,5.086 -4.006,5.08 -3.987,5.073 -3.967,5.065 -3.948,5.056 -3.93,5.046 -3.912,5.035 -3.895,5.024 -3.878,5.011 -3.862,4.997 -3.847,4.983 -3.833,4.968 -3.819,4.952 -3.806,4.935 -3.795,4.918 -3.784,4.9 -3.774,4.882 -3.765,4.863 -3.757,4.843 -3.75,4.824 -3.744,4.804 -3.739,4.783 -3.735,4.763 -3.732,4.742 -3.731,4.721 -3.73,4.7 -3.73,4.1 -3.731,4.079 -3.732,4.058 -3.735,4.037 -3.739,4.017 -3.744,3.996 -3.75,3.976 -3.757,3.957 -3.765,3.937 -3.774,3.918 -3.784,3.9 -3.795,3.882 -3.806,3.865 -3.819,3.848 -3.833,3.832 -3.847,3.817 -3.862,3.803 -3.878,3.789 -3.895,3.776 -3.912,3.765 -3.93,3.754 -3.948,3.744 -3.967,3.735 -3.987,3.727 -4.006,3.72 -4.026,3.714 -4.047,3.709 -4.067,3.705 -4.088,3.702 -4.109,3.701 -4.13,3.7 -4.151,3.701 -4.172,3.702 -4.193,3.705 -4.213,3.709 -4.234,3.714 -4.254,3.72 -4.273,3.727 -4.293,3.735 -4.312,3.744 -4.33,3.754 -4.348,3.765 -4.365,3.776 -4.382,3.789 -4.398,3.803 -4.413,3.817 -4.427,3.832 -4.441,3.848 -4.454,3.865 -4.465,3.882 -4.476,3.9 -4.486,3.918 -4.495,3.937 -4.503,3.957 -4.51,3.976 -4.516,3.996 -4.521,4.017 -4.525,4.037 -4.528,4.058 -4.529,4.079 -4.53,4.1 -4.53,4.7 -4.529,4.721 -4.528,4.742 -4.525,4.763 -4.521,4.783 -4.516,4.804 -4.51,4.824 -4.503,4.843 -4.495,4.863 -4.486,4.882 -4.476,4.9 -4.465,4.918 -4.454,4.935 -4.441,4.952 -4.427,4.968 -4.413,4.983 -4.398,4.997 -4.382,5.011 -4.365,5.024 -4.348,5.035 -4.33,5.046 -4.312,5.056 -4.293,5.065 -4.273,5.073 -4.254,5.08 -4.234,5.086 -4.213,5.091 -4.193,5.095 -4.172,5.098 -4.151,5.099 -4.13,5.1
  region: 4.151,5.099 4.172,5.098 4.193,5.095 4.213,5.091 4.234,5.086 4.254,5.08 4.273,5.073 4.293,5.065 4.312,5.056 4.33,5.046 4.348,5.035 4.365,5.024 4.382,5.011 4.398,4.997 4.413,4.983 4.427,4.968 4.441,4.952 4.454,4.935 4.465,4.918 4.476,4.9 4.486,4.882 4.495,4.863 4.503,4.843 4.51,4.824 4.516,4.804 4.521,4.783 4.525,4.763 4.528,4.742 4.529,4.721 4.53,4.7 4.53,4.1 4.529,4.079 4.528,4.058 4.525,4.037 4.521,4.017 4.516,3.996 4.51,3.976 4.503,3.957 4.495,3.937 4.486,3.918 4.476,3.9 4.465,3.882 4.454,3.865 4.441,3.848 4.427,3.832 4.413,3.817 4.398,3.803 4.382,3.789 4.365,3.776 4.348,3.765 4.33,3.754 4.312,3.744 4.293,3.735 4.273,3.727 4.254,3.72 4.234,3.714 4.213,3.709 4.193,3.705 4.172,3.702 4.151,3.701 4.13,3.7 4.109,3.701 4.088,3.702 4.067,3.705 4.047,3.709 4.026,3.714 4.006,3.72 3.987,3.727 3.967,3.735 3.948,3.744 3.93,3.754 3.912,3.765 3.895,3.776 3.878,3.789 3.862,3.803 3.847,3.817 3.833,3.832 3.819,3.848 3.806,3.865 3.795,3.882 3.784,3.9 3.774,3.918 3.765,3.937 3.757,3.957 3.75,3.976 3.744,3.996 3.739,4.017 3.735,4.037 3.732,4.058 3.731,4.079 3.73,4.1 3.73,4.7 3.731,4.721 3.732,4.742 3.735,4.763 3.739,4.783 3.744,4.804 3.75,4.824 3.757,4.843 3.765,4.863 3.774,4.882 3.784,4.9 3.795,4.918 3.806,4.935 3.819,4.952 3.833,4.968 3.847,4.983 3.862,4.997 3.878,5.011 3.895,5.024 3.912,5.035 3.93,5.046 3.948,5.056 3.967,5.065 3.987,5.073 4.006,5.08 4.026,5.086 4.047,5.091 4.067,5.095 4.088,5.098 4.109,5.099 4.13,5.1
Top Overlay:
  circle w0.2: c-2.8,8 r0.1
  lines w0.2: -4.925,-1.15 -4.925,-1.55 4.925,-1.55 4.925,-1.15 ; -4.925,1.15 -4.925,7.34 4.925,7.34 4.925,1.15
Top Solder:
  drawing of 5 lines, arcs and shapes, not listed
Bottom Solder:
  drawing of 5 lines, arcs and shapes, not listed
Mechanical 1:
  lines w0: 3.125,5.64 ccw(c3.45,5.64) 3.45,5.315 3.75,5.315 ccw(c3.75,5.64) 4.075,5.64 ccw(c3.75,5.64) 3.75,5.965 3.45,5.965 ccw(c3.45,5.64) 3.125,5.64
Mechanical 13:
  circle w0.2: c-2.8,8 r0.1
  lines w0.1: -6,-1.55 6,-1.55 ; -4.925,-2.53 -4.925,7.34 4.925,7.34 4.925,-2.53 -4.925,-2.53
  text "PCB Edge" at 5.334,-1.016 h0.81
Mechanical 15:
  lines w0.05: -5.175,-2.78 -5.175,7.59 5.175,7.59 5.175,-2.78 -5.175,-2.78
3D body "step_temp.STEP": height 3.26, standoff -1.2, extent -4.925,-2.53 4.925,7.34

## HDR_1x4_2R54_V_M [mm]
pads (4):
  rect 1.5x1.5 hole 1.02: 1(0,0)
  round 1.5 hole 1.02: 2(2.54,0) 3(5.08,0) 4(7.62,0)
Top Overlay:
  circle w0.25: c-0.135,1.702 r0.059
  lines w0.2: 8.865,1.27 -1.27,1.27 -1.27,-1.27 8.89,-1.27 8.89,1.27
Mechanical 13:
  lines w0.025: -1.27,-0.762 -1.27,0.762 ; -1.27,-0.762 -1.27,0.762 ; -1.27,-0.762 -0.762,-1.27 ; -1.27,0.762 -0.762,1.27 0.762,1.27 1.27,0.762 ; -0.762,-1.27 0.762,-1.27 ; -0.762,-1.27 0.762,-1.27 ; 0.762,-1.27 1.27,-0.762 ; 1.27,-0.762 1.27,0.762 ; 1.27,-0.762 1.27,0.762 ; 1.27,-0.762 1.27,0.762 ; 1.27,-0.762 1.27,0.762 ; 1.27,-0.762 1.778,-1.27 ; 1.27,0.762 1.778,1.27 3.302,1.27 3.81,0.762 ; 1.778,-1.27 3.302,-1.27 ; 1.778,-1.27 3.302,-1.27 ; 3.302,-1.27 3.81,-0.762 ; 3.81,-0.762 3.81,0.762 ; 3.81,-0.762 3.81,0.762 ; 3.81,-0.762 3.81,0.762 ; 3.81,-0.762 3.81,0.762 ; 3.81,-0.762 4.318,-1.27 ; 3.81,0.762 4.318,1.27 5.842,1.27 6.35,0.762 ; 4.318,-1.27 5.842,-1.27 ; 4.318,-1.27 5.842,-1.27 ; 5.842,-1.27 6.35,-0.762 ; 6.35,-0.762 6.35,0.762 ; 6.35,-0.762 6.35,0.762
3D body: height 2.54, standoff 0, extent -1.27,-1.27 1.27,1.27
3D body: height 9, standoff -2.54, extent -0.35,-0.349 0.347,0.349
3D body: height 2.54, standoff 0, extent 1.27,-1.27 3.81,1.27
3D body: height 9, standoff -2.54, extent 2.19,-0.349 2.887,0.349
3D body: height 2.54, standoff 0, extent 3.81,-1.27 6.35,1.27
3D body: height 9, standoff -2.54, extent 4.73,-0.349 5.427,0.349
3D body: height 9, standoff -2.54, extent 7.27,-0.349 7.967,0.349
3D body: height 2.54, standoff 0, extent 6.35,-1.27 8.89,1.27